# Altium schematic symbol library D24V5xA.SchLib: 1 symbol
Pins are listed as number, name and electrical type; pins without a type are passive.

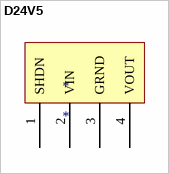
[diagram p0: symbol D24V5]

## D24V5
designator *
footprint PCBComponent_1
pins: 1 SHDN, 2 VIN, 3 GRND, 4 VOUT